# Altium footprint library JP.PcbLib: 182 footprints (part 7 of 12)
Each footprint in its own frame and in the unit in brackets; x right, y up, seen from the top. Pads: shape width x height; smd on the part's side, far side on the other; paste and mask are expansions set on the pad; w line width, h text height; cw(c..) or ccw(c..) is an arc to the next point about the centre after c.
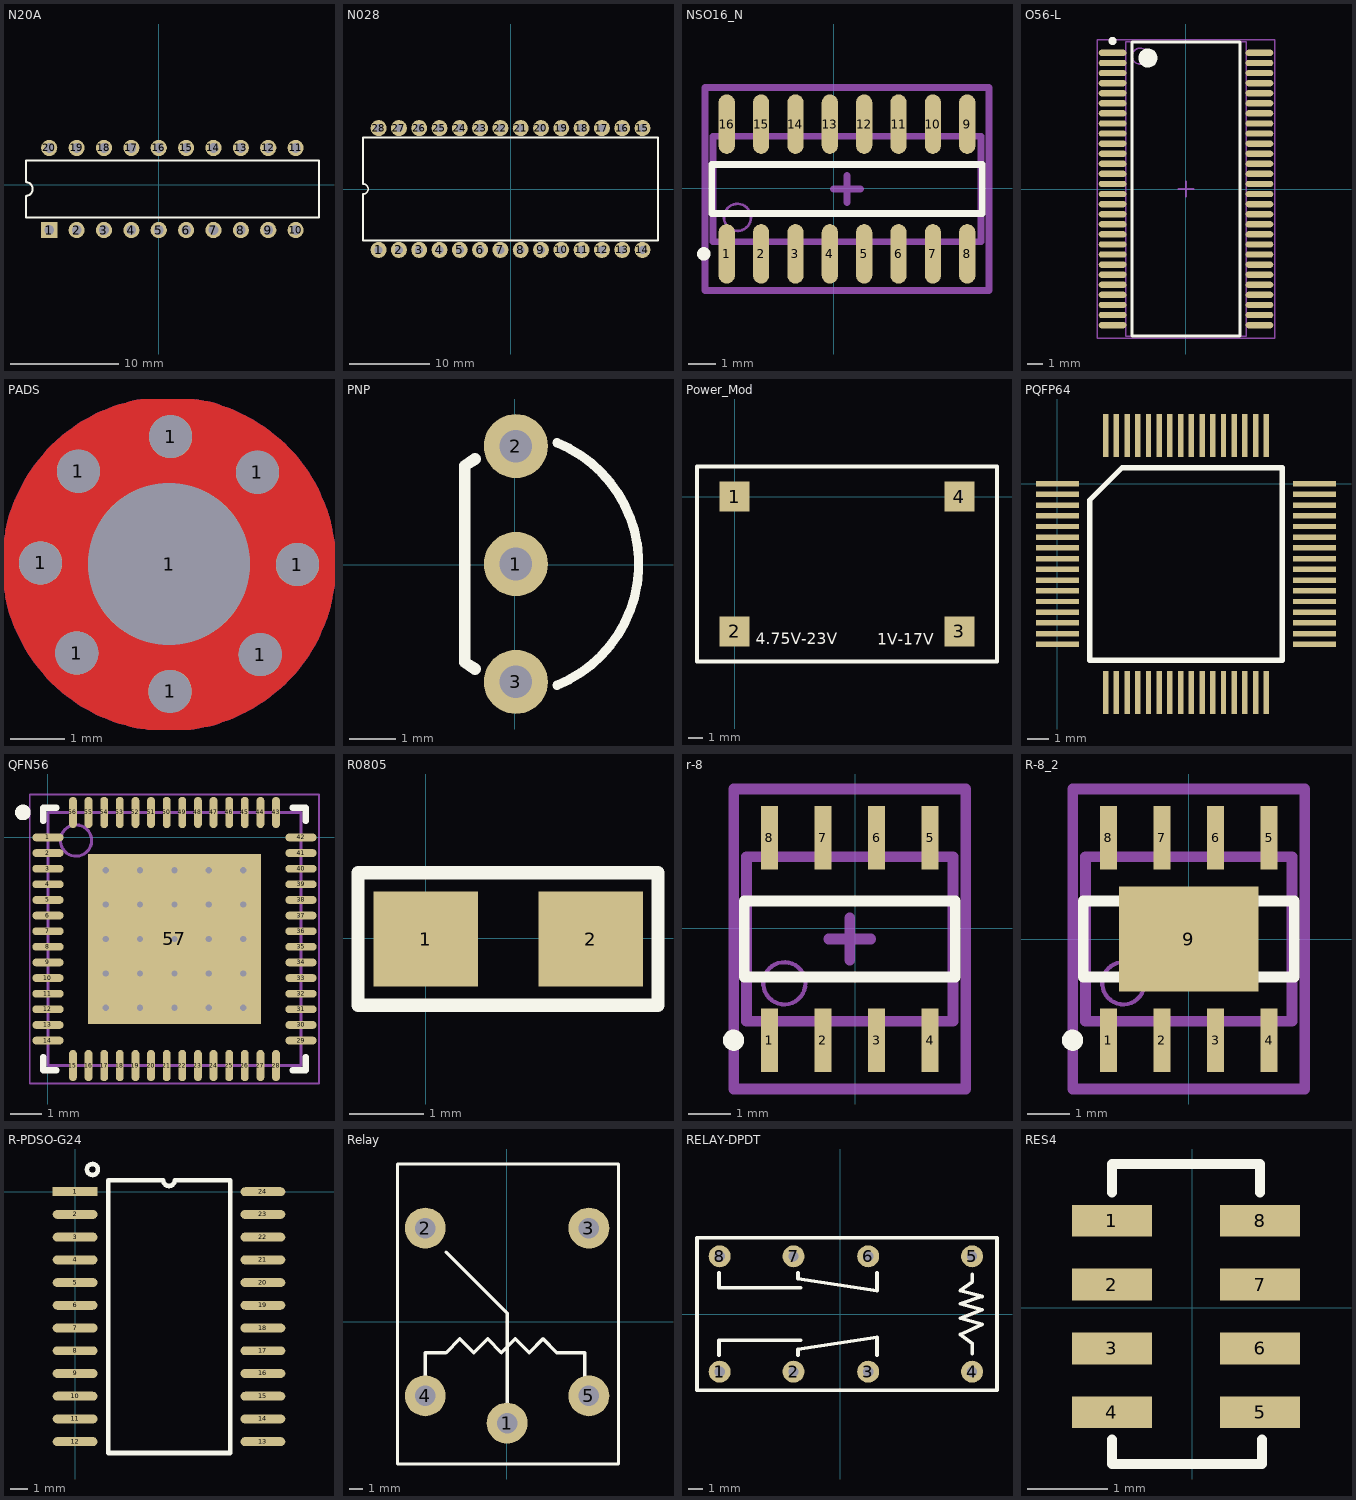
[diagram p6: the footprints below, top view; thin cyan lines are the x and y axes]

## N20A [mm]
pads (20):
  rect 1.5x1.5 hole 0.9: 1(-10.178,-4.22)
  round 1.5 hole 0.9: 2(-7.638,-4.22) 3(-5.098,-4.22) 4(-2.558,-4.22) 5(-0.018,-4.22) 6(2.522,-4.22) 7(5.062,-4.22) 8(7.602,-4.22) 9(10.142,-4.22) 10(12.682,-4.22) 11(12.682,3.4) 12(10.142,3.4) 13(7.602,3.4) 14(5.062,3.4) 15(2.522,3.4) 16(-0.018,3.4) 17(-2.558,3.4) 18(-5.098,3.4) 19(-7.638,3.4) 20(-10.178,3.4)
Top Overlay:
  lines w0.2: -12.348,-3.06 -12.348,-1.045 ccw(c-12.348,-0.41) -12.348,0.225 -12.348,2.24 14.852,2.24 14.852,-3.06 -12.348,-3.06

## N028 [mm] "DIP; 28 Leads; Row Spacing 15.24 mm; Pitch 2.54 mm"
height 5.08
pads (28):
  round 2 hole 1: 1(-16.51,-7.62) 2(-13.97,-7.62) 3(-11.43,-7.62) 4(-8.89,-7.62) 5(-6.35,-7.62) 6(-3.81,-7.62) 7(-1.27,-7.62) 8(1.27,-7.62) 9(3.81,-7.62) 10(6.35,-7.62) 11(8.89,-7.62) 12(11.43,-7.62) 13(13.97,-7.62) 14(16.51,-7.62) 15(16.51,7.62) 16(13.97,7.62) 17(11.43,7.62) 18(8.89,7.62) 19(6.35,7.62) 20(3.81,7.62) 21(1.27,7.62) 22(-1.27,7.62) 23(-3.81,7.62) 24(-6.35,7.62) 25(-8.89,7.62) 26(-11.43,7.62) 27(-13.97,7.62) 28(-16.51,7.62)
Top Overlay:
  lines w0.2: -18.45,-0.635 ccw(c-18.45,0) -18.45,0.635
  lines w0.254: -18.45,-0.635 -18.45,-6.45 18.45,-6.45 18.45,6.45 -18.45,6.45 -18.45,0.635

## NSO16_N [mm]
pads (16):
  oval 0.6x2.2 smd: 1(-3.957,-2.43) 2(-2.687,-2.43) 3(-1.417,-2.43) 4(-0.147,-2.43) 5(1.123,-2.43) 6(2.393,-2.43) 7(3.663,-2.43) 8(4.933,-2.43) 9(4.933,2.37) 10(3.663,2.37) 11(2.393,2.37) 12(1.123,2.37) 13(-0.147,2.37) 14(-1.417,2.37) 15(-2.687,2.37) 16(-3.957,2.37)
Top Overlay:
  circle w0.25: c-4.807,-2.43 r0.125
  lines w0.254: -4.512,-0.93 -4.512,0.87 5.488,0.87 5.488,-0.93 -4.512,-0.93
Mechanical 13:
  circle w0.1: c-3.562,-1.08 r0.5
  lines w0.254: -4.462,-1.98 -4.462,1.92 5.438,1.92 5.438,-1.98 -4.462,-1.98
Mechanical 15:
  lines w0.254: -0.012,-0.03 0.988,-0.03 ; 0.488,-0.53 0.488,0.47 ; -4.762,-3.78 -4.762,3.72 5.738,3.72 5.738,-3.78 -4.762,-3.78
3D body: height 1.75, standoff 0, extent -4.462,-1.98 5.438,1.92

## O56-L [mm]
pads (56):
  oval 1.75x0.4 smd: 1(-4.625,8.572) 2(-4.625,7.938) 3(-4.625,7.302) 4(-4.625,6.667) 5(-4.625,6.032) 6(-4.625,5.397) 7(-4.625,4.763) 8(-4.625,4.127) 9(-4.625,3.492) 10(-4.625,2.857) 11(-4.625,2.222) 12(-4.625,1.587) 13(-4.625,0.953) 14(-4.625,0.318) 15(-4.625,-0.318) 16(-4.625,-0.953) 17(-4.625,-1.587) 18(-4.625,-2.222) 19(-4.625,-2.857) 20(-4.625,-3.492) 21(-4.625,-4.127) 22(-4.625,-4.763) 23(-4.625,-5.397) 24(-4.625,-6.032) 25(-4.625,-6.667) 26(-4.625,-7.302) 27(-4.625,-7.938) 28(-4.625,-8.572) 29(4.625,-8.572) 30(4.625,-7.938) 31(4.625,-7.302) 32(4.625,-6.667) 33(4.625,-6.032) 34(4.625,-5.397) 35(4.625,-4.763) 36(4.625,-4.127) 37(4.625,-3.492) 38(4.625,-2.857) 39(4.625,-2.222) 40(4.625,-1.587) 41(4.625,-0.953) 42(4.625,-0.318) 43(4.625,0.318) 44(4.625,0.953) 45(4.625,1.587) 46(4.625,2.222) 47(4.625,2.857) 48(4.625,3.492) 49(4.625,4.127) 50(4.625,4.763) 51(4.625,5.397) 52(4.625,6.032) 53(4.625,6.667) 54(4.625,7.302) 55(4.625,7.938) 56(4.625,8.572)
Top Overlay:
  circle w0.25: c-4.625,9.323 r0.125
  circle w0.6: c-2.4,8.25 r0.3
  lines w0.2: -3.4,-9.25 -3.4,9.25 3.4,9.25 3.4,-9.25 -3.4,-9.25
Mechanical 13:
  circle w0.1: c-2.895,8.37 r0.5
  lines w0.1: -3.795,-9.27 -3.795,9.27 3.795,9.27 3.795,-9.27 -3.795,-9.27
Mechanical 15:
  lines w0.1: -0.5,0 0.5,0 ; 0,-0.5 0,0.5 ; -5.6,-9.4 -5.6,9.4 5.6,9.4 5.6,-9.4 -5.6,-9.4
3D body: height 2.8, standoff 0, extent -3.795,-9.27 3.795,9.27

## PADS [mm]
pads (9):
  round 0.8 hole 0.8: 1(-2.38,0.02) 1(-1.71,-1.65) 1(-1.68,1.72) 1(0.02,-2.36) 1(0.03,2.36) 1(1.64,1.7) 1(1.69,-1.68) 1(2.38,-0.01)
  round 3 hole 3: 1(0,0)
Top Layer:
  circle w2: c0,0 r2.1
Bottom Layer:
  circle w2: c0,0 r2.1
Top Solder:
  circle w2: c0,0 r2.1
Bottom Solder:
  circle w2: c0,0 r2.1

## PNP [mm]
pads (3):
  round 1.38 hole 0.7: 1(0.025,0.013) 2(0.025,2.553) 3(0.025,-2.527)
Top Overlay:
  lines w0.2: 0.911,-2.597 ccw(c-0.144,0.013) 0.911,2.623
  lines w0.254: -0.856,-2.25 -1.075,-2.104 -1.075,2.129 -0.856,2.275

## Power_Mod [mil]
pads (4):
  rect 80x80 smd: 1(0,0) 2(0,-360) 3(600,-360) 4(600,0)
Top Overlay:
  lines w10: -80,-440 700,-440 700,60 ; -40,-440 -100,-440 -100,80 -80,80 700,80 700,0
  text "1V-17V" at 380.71,-395.67 h30
  text "4.75V-23V" at 56.69,-393.7 h30

## PQFP64 [mm]
pads (64):
  rect 2x0.254 smd: 1(0,0) 2(0,-0.5) 3(0,-1) 4(0,-1.5) 5(0,-2) 6(0,-2.5) 7(0,-3) 8(0,-3.5) 9(0,-4) 10(0,-4.5) 11(0,-5) 12(0,-5.5) 13(0,-6) 14(0,-6.5) 15(0,-7) 16(0,-7.5) 33(12,-7.5) 34(12,-7) 35(12,-6.5) 36(12,-6) 37(12,-5.5) 38(12,-5) 39(12,-4.5) 40(12,-4) 41(12,-3.5) 42(12,-3) 43(12,-2.5) 44(12,-2) 45(12,-1.5) 46(12,-1) 47(12,-0.5) 48(12,0)
  rect 0.254x2 smd: 17(2.25,-9.75) 18(2.75,-9.75) 19(3.25,-9.75) 20(3.75,-9.75) 21(4.25,-9.75) 22(4.75,-9.75) 23(5.25,-9.75) 24(5.75,-9.75) 25(6.25,-9.75) 26(6.75,-9.75) 27(7.25,-9.75) 28(7.75,-9.75) 29(8.25,-9.75) 30(8.75,-9.75) 31(9.25,-9.75) 32(9.75,-9.75) 49(9.75,2.25) 50(9.25,2.25) 51(8.75,2.25) 52(8.25,2.25) 53(7.75,2.25) 54(7.25,2.25) 55(6.75,2.25) 56(6.25,2.25) 57(5.75,2.25) 58(5.25,2.25) 59(4.75,2.25) 60(4.25,2.25) 61(3.75,2.25) 62(3.25,2.25) 63(2.75,2.25) 64(2.25,2.25)
Top Overlay:
  lines w0.25: 1.508,-8.242 10.492,-8.242 10.492,0.742 3.016,0.742 1.508,-0.766 1.508,-8.242

## QFN56 [mm]
pads (57):
  oval 1x0.25 smd: 1(0,0) 2(0,-0.5) 3(0,-1) 4(0,-1.5) 5(0,-2) 6(0,-2.5) 7(0,-3) 8(0,-3.5) 9(0,-4) 10(0,-4.5) 11(0,-5) 12(0,-5.5) 13(0,-6) 14(0,-6.5) 29(8.1,-6.5) 30(8.1,-6) 31(8.1,-5.5) 32(8.1,-5) 33(8.1,-4.5) 34(8.1,-4) 35(8.1,-3.5) 36(8.1,-3) 37(8.1,-2.5) 38(8.1,-2) 39(8.1,-1.5) 40(8.1,-1) 41(8.1,-0.5) 42(8.1,0)
  oval 0.25x1 smd: 15(0.8,-7.3) 16(1.3,-7.3) 17(1.8,-7.3) 18(2.3,-7.3) 19(2.8,-7.3) 20(3.3,-7.3) 21(3.8,-7.3) 22(4.3,-7.3) 23(4.8,-7.3) 24(5.3,-7.3) 25(5.8,-7.3) 26(6.3,-7.3) 27(6.8,-7.3) 28(7.3,-7.3) 43(7.3,0.8) 44(6.8,0.8) 45(6.3,0.8) 46(5.8,0.8) 47(5.3,0.8) 48(4.8,0.8) 49(4.3,0.8) 50(3.8,0.8) 51(3.3,0.8) 52(2.8,0.8) 53(2.3,0.8) 54(1.8,0.8) 55(1.3,0.8) 56(0.8,0.8)
  rect 5.55x5.45 smd: 57(4.05,-3.25)
via 1.85,-1.05 diameter 0.5 hole 0.2
via 2.95,-1.05 diameter 0.5 hole 0.2
via 4.05,-1.05 diameter 0.5 hole 0.2
via 5.15,-1.05 diameter 0.5 hole 0.2
via 6.25,-1.05 diameter 0.5 hole 0.2
via 1.85,-2.15 diameter 0.5 hole 0.2
via 2.95,-2.15 diameter 0.5 hole 0.2
via 1.85,-5.45 diameter 0.5 hole 0.2
via 2.95,-5.45 diameter 0.5 hole 0.2
via 4.05,-5.45 diameter 0.5 hole 0.2
via 5.15,-5.45 diameter 0.5 hole 0.2
via 6.25,-5.45 diameter 0.5 hole 0.2
via 6.25,-4.35 diameter 0.5 hole 0.2
via 5.15,-4.35 diameter 0.5 hole 0.2
via 1.85,-4.35 diameter 0.5 hole 0.2
via 2.95,-4.35 diameter 0.5 hole 0.2
via 4.05,-4.35 diameter 0.5 hole 0.2
via 4.05,-3.25 diameter 0.5 hole 0.2
via 2.95,-3.25 diameter 0.5 hole 0.2
via 1.85,-3.25 diameter 0.5 hole 0.2
via 4.05,-2.15 diameter 0.5 hole 0.2
via 5.15,-3.25 diameter 0.5 hole 0.2
via 5.15,-2.15 diameter 0.5 hole 0.2
via 6.25,-3.25 diameter 0.5 hole 0.2
via 6.25,-2.15 diameter 0.5 hole 0.2
Top Overlay:
  circle w0.25: c-0.8,0.8 r0.125
  lines w0.2: -0.15,-7.025 -0.15,-7.45 0.275,-7.45 ; -0.15,0.525 -0.15,0.95 0.275,0.95 ; 7.825,-7.45 8.25,-7.45 8.25,-7.025 ; 7.825,0.95 8.25,0.95 8.25,0.525
Mechanical 13:
  circle w0.1: c0.9,-0.1 r0.5
  lines w0.1: 0,-7.3 8.1,-7.3 8.1,0.8 0,0.8 0,-7.3
Mechanical 15:
  lines w0.05: -0.575,-7.875 8.675,-7.875 8.675,1.375 -0.575,1.375 -0.575,-7.875
  lines w0.1: 3.55,-3.25 4.55,-3.25 ; 4.05,-3.75 4.05,-2.75
3D body: height 1, standoff 0.02, extent 0,-7.3 8.1,0.8

## R0805 [mm]
height 6.35
pads (2):
  rect 1.4x1.27 smd: 1(-0.001,-0.007) 2(2.209,-0.007)
Top Overlay:
  lines w0.178: -0.91,0.872 -0.91,-0.896 3.11,-0.896 3.11,0.882 3.01,0.882 ; -0.91,0.882 3.009,0.882

## r-8 [mm]
height 1.75
pads (8):
  rect 0.4x1.5 smd: 1(-2.032,-2.654) 2(-0.762,-2.654) 3(0.508,-2.654) 4(1.778,-2.654) 5(1.778,2.146) 6(0.508,2.146) 7(-0.762,2.146) 8(-2.032,2.146)
Top Overlay:
  circle w0.25: c-2.882,-2.654 r0.125
  lines w0.254: -2.627,-1.154 2.373,-1.154 2.373,0.646 -2.627,0.646 -2.627,-1.154
Mechanical 13:
  circle w0.1: c-1.677,-1.304 r0.5
  lines w0.254: -2.577,-2.204 2.323,-2.204 2.323,1.696 -2.577,1.696 -2.577,-2.204
Mechanical 15:
  lines w0.254: -0.627,-0.254 0.373,-0.254 ; -0.127,-0.754 -0.127,0.246 ; -2.877,-3.81 2.623,-3.81 2.623,3.302 -2.877,3.302 -2.877,-3.81
3D body: height 1.75, standoff 0, extent -2.577,-2.204 2.323,1.696

## R-8_2 [mm]
pads (9):
  rect 0.4x1.5 smd: 1(-1.905,-2.4) 2(-0.635,-2.4) 3(0.635,-2.4) 4(1.905,-2.4) 5(1.905,2.4) 6(0.635,2.4) 7(-0.635,2.4) 8(-1.905,2.4)
  rect 3.3x2.5 smd: 9(0,0)
Top Overlay:
  circle w0.25: c-2.755,-2.4 r0.125
  lines w0.254: -2.5,-0.9 2.5,-0.9 2.5,0.9 -2.5,0.9 -2.5,-0.9
Mechanical 13:
  circle w0.1: c-1.55,-1.05 r0.5
  lines w0.254: -2.45,-1.95 2.45,-1.95 2.45,1.95 -2.45,1.95 -2.45,-1.95
Mechanical 15:
  lines w0.254: -0.5,0 0.5,0 ; 0,-0.5 0,0.5 ; -2.75,-3.556 2.75,-3.556 2.75,3.556 -2.75,3.556 -2.75,-3.556
3D body: height 1.75, standoff 0, extent -2.45,-1.95 2.45,1.95

## R-PDSO-G24 [mm]
height 3
pads (24):
  rect 2.5x0.5 smd: 1(0,0)
  oval 2.5x0.5 smd: 2(0,-1.27) 3(0,-2.54) 4(0,-3.81) 5(0,-5.08) 6(0,-6.35) 7(0,-7.62) 8(0,-8.89) 9(0,-10.16) 10(0,-11.43) 11(0,-12.7) 12(0,-13.97) 13(10.5,-13.97) 14(10.5,-12.7) 15(10.5,-11.43) 16(10.5,-10.16) 17(10.5,-8.89) 18(10.5,-7.62) 19(10.5,-6.35) 20(10.5,-5.08) 21(10.5,-3.81) 22(10.5,-2.54) 23(10.5,-1.27) 24(10.5,0)
Top Overlay:
  circle w0.254: c0.972,1.24 r0.308
  lines w0.254: 1.85,-14.605 1.85,0.635 4.932,0.635 ccw(c5.25,0.635) 5.567,0.635 8.67,0.635 8.67,-14.605 1.85,-14.605

## Relay [mm]
pads (5):
  round 3 hole 1.5: 1(0.031,-7.442) 2(-5.969,6.858) 3(6.031,6.858) 4(-5.969,-5.442) 5(6.031,-5.442)
Top Overlay:
  lines w0.25: -5.969,-5.442 -5.969,-2.286 -4.445,-2.286 -3.429,-1.27 -2.413,-2.286 -1.397,-1.27 -0.381,-2.286 0.635,-1.27 1.651,-2.286 2.667,-1.27 3.683,-2.286 5.715,-2.286 5.715,-5.25 ; -4.445,5.08 0.031,0.604 0.031,-7.442 ; -8.001,-10.442 8.199,-10.442 8.199,11.558 -8.001,11.558 -8.001,-10.442

## RELAY-DPDT [mm]
pads (8):
  round 1.5 hole 0.7: 1(-8.25,-3.94) 2(-3.2,-3.94) 3(1.9,-3.94) 4(9,-3.94) 5(9,3.94) 6(1.9,3.94) 7(-3.2,3.94) 8(-8.25,3.94)
Top Overlay:
  lines w0.25: -8.3,-2.8 -8.3,-1.8 -2.7,-1.8 ; -8.3,2.8 -8.3,1.8 -2.7,1.8 ; -2.9,-2.8 -2.9,-2.415 2.5,-1.6 2.5,-2.8 ; -2.9,2.8 -2.9,2.415 2.5,1.6 2.5,2.8 ; 9,-2.7 9,-2 8.2,-1.4 9.7,-0.7 8.2,-0.3 9.69,0.296 8.189,0.696 9.7,1.2 8.2,1.6 9,2.2 9,2.7 ; -9.8,-5.2 -9.8,5.2 10.7,5.2 10.7,-5.2 -9.8,-5.2

## RES4 [mm]
pads (8):
  rect 1x0.4 smd: 1(-1.009,1.093) 2(-1.009,0.293) 3(-1.009,-0.507) 4(-1.009,-1.307) 5(0.849,-1.307) 6(0.849,-0.507) 7(0.849,0.293) 8(0.849,1.093)
Top Overlay:
  lines w0.127: -1.009,-1.65 -1.009,-1.803 -1.009,-1.955 0.871,-1.955 0.871,-1.803 0.871,-1.65 ; -1.009,1.449 -1.009,1.626 -1.009,1.804 0.845,1.804 0.845,1.626 0.845,1.449